# Altium footprint library WR-TBL_Pluggable Connector_2.50mm.PcbLib: 41 footprints (part 1 of 3)
Each footprint in its own frame and in the unit in brackets; x right, y up, seen from the top. Pads: shape width x height; smd on the part's side, far side on the other; paste and mask are expansions set on the pad; w line width, h text height; cw(c..) or ccw(c..) is an arc to the next point about the centre after c.
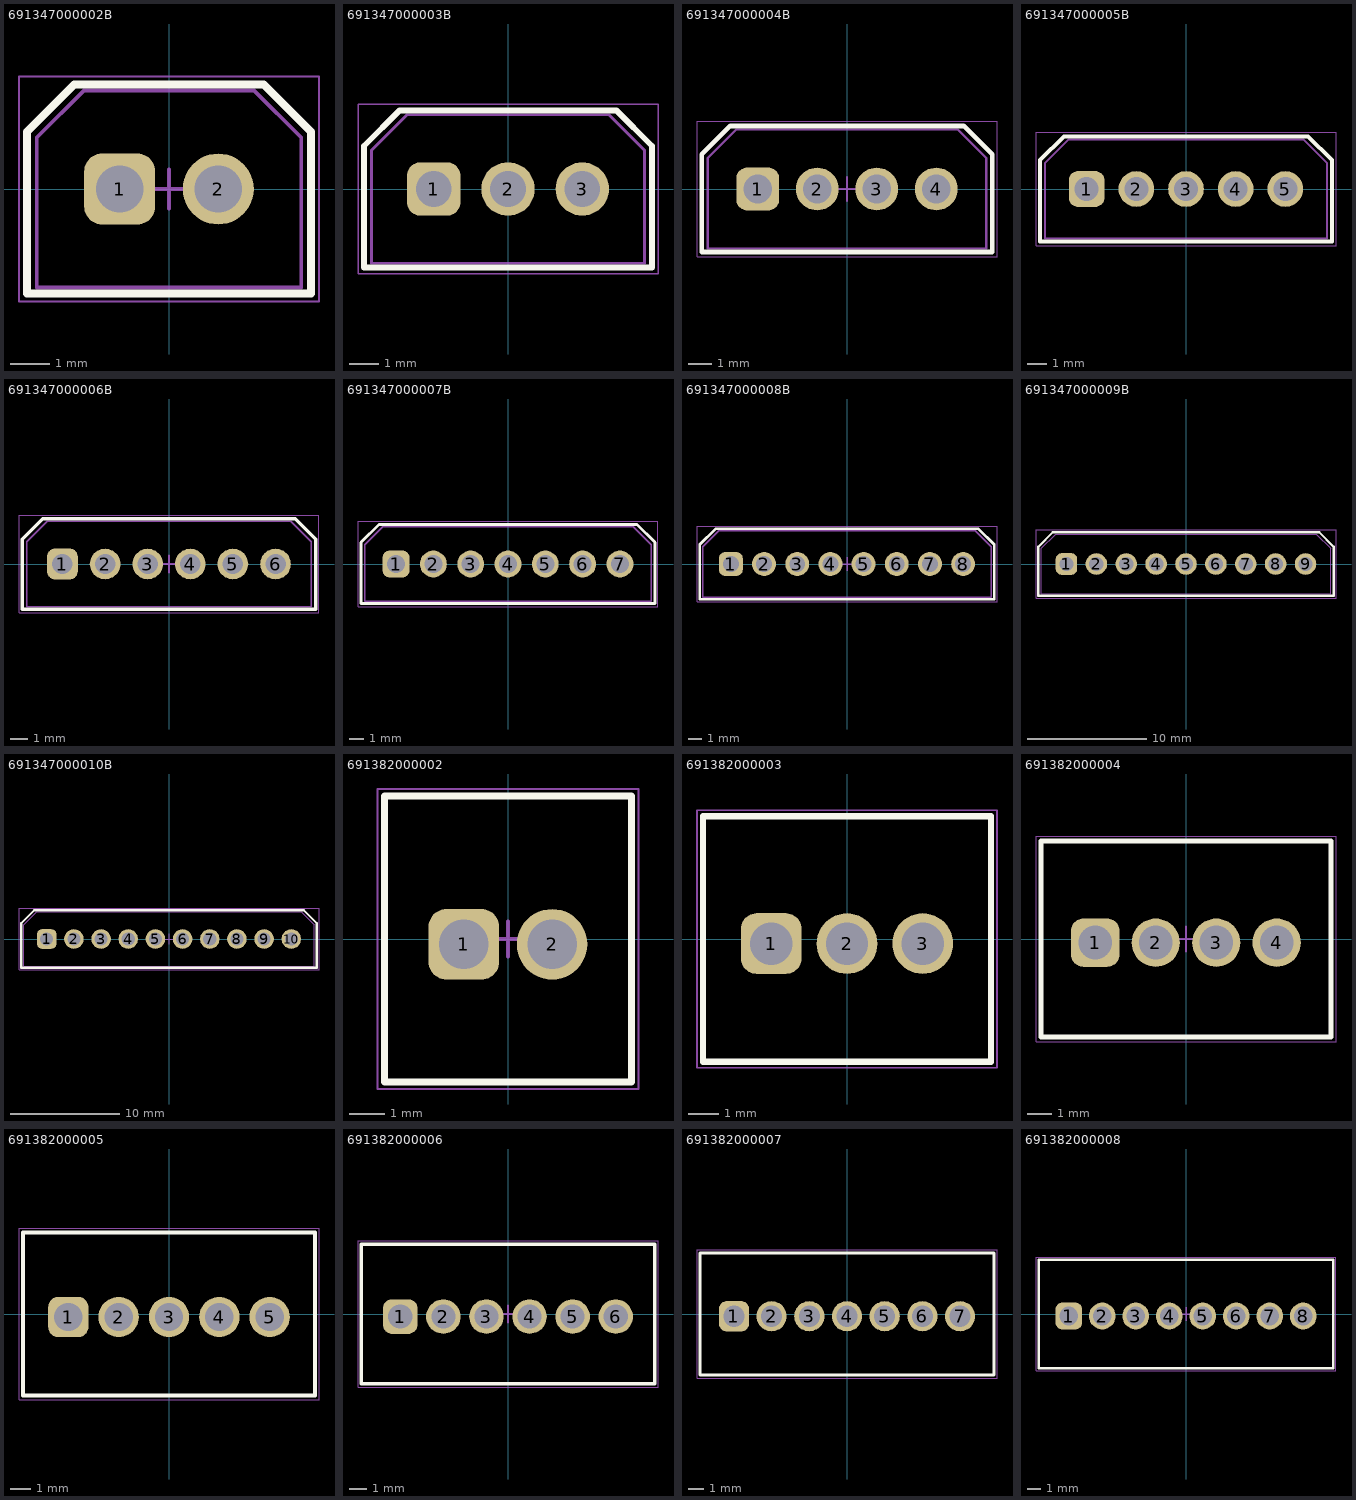
[diagram p0: the footprints below, top view; thin cyan lines are the x and y axes]

## 691347000002B [mm] "Terminal block - PCB  Header, pitch 2.5mm, 2p"
height 7.5
pads (2):
  rrect50% 1.8x1.8 hole 1.2: 1(-1.25,0)
  round 1.8 hole 1.2: 2(1.25,0)
Top Overlay:
  lines w0.2: -3.6,-2.65 3.6,-2.65 3.6,1.45 2.4,2.65 -2.4,2.65 -3.6,1.45 -3.6,-2.65
Top Assembly:
  lines w0.1: -3.35,-2.5 -3.35,1.3 -2.15,2.5 2.15,2.5 3.35,1.3 3.35,-2.5 -3.35,-2.5
Top Designator:
  text ".Designator" at -3.647,-0.357 h1
Top 3D Body:
  lines w0.1: -3.35,-2.5 3.35,-2.5 3.35,1.3 2.15,2.5 -2.15,2.5 -3.35,1.3 -3.35,-2.5
Top Courtyard:
  lines w0.05: -3.8,-2.85 -3.8,2.85 3.8,2.85 3.8,-2.85 -3.8,-2.85
Top Component Center:
  lines w0.1: -0.5,0 0.5,0 ; 0,-0.5 0,0.5
3D body "691347000002B_3D.stp": height 7.55, standoff -2.05, extent -3.35,-2.5 3.35,2.5

## 691347000003B [mm] "Terminal block - PCB  Header, pitch 2.5mm, 3p"
height 7.5
pads (3):
  rrect50% 1.8x1.8 hole 1.2: 1(-2.5,0)
  round 1.8 hole 1.2: 2(0,0) 3(2.5,0)
Top Overlay:
  lines w0.2: -4.85,-2.65 -4.85,1.45 -3.65,2.65 3.65,2.65 4.85,1.45 4.85,-2.65 -4.85,-2.65
Top Assembly:
  lines w0.1: -4.6,-2.5 -4.6,1.3 -3.4,2.5 3.4,2.5 4.6,1.3 4.6,-2.5 -4.6,-2.5
Top Designator:
  text ".Designator" at -3.647,-0.357 h1
Top 3D Body:
  lines w0.1: -4.6,-2.5 4.6,-2.5 4.6,1.3 3.4,2.5 -3.4,2.5 -4.6,1.3 -4.6,-2.5
Top Courtyard:
  lines w0.05: -5.05,-2.85 5.05,-2.85 5.05,2.85 -5.05,2.85 -5.05,-2.85
Top Component Center:
  lines w0.1: -0.5,0 0.5,0 ; 0,-0.5 0,0.5
3D body "691347000003B.stp": height 7.55, standoff -2.05, extent -4.6,-2.5 4.6,2.5

## 691347000004B [mm] "Terminal block - PCB  Header, pitch 2.5mm, 4p"
height 7.5
pads (4):
  rrect50% 1.8x1.8 hole 1.2: 1(-3.75,0)
  round 1.8 hole 1.2: 2(-1.25,0) 3(1.25,0) 4(3.75,0)
Top Overlay:
  lines w0.2: -6.1,-2.65 6.1,-2.65 6.1,1.45 4.9,2.65 -4.9,2.65 -6.1,1.45 -6.1,-2.65
Top Assembly:
  lines w0.1: -5.85,-2.5 -5.85,1.3 -4.65,2.5 4.65,2.5 5.85,1.3 5.85,-2.5 -5.85,-2.5
Top Designator:
  text ".Designator" at -3.647,-0.357 h1
Top 3D Body:
  lines w0.1: -5.85,-2.5 5.85,-2.5 5.85,1.3 4.65,2.5 -4.65,2.5 -5.85,1.3 -5.85,-2.5
Top Courtyard:
  lines w0.05: -6.3,-2.85 -6.3,2.85 6.3,2.85 6.3,-2.85 -6.3,-2.85
Top Component Center:
  lines w0.1: -0.5,0 0.5,0 ; 0,-0.5 0,0.5
3D body "691347000004B.stp": height 7.55, standoff -2.05, extent -5.85,-2.5 5.85,2.5

## 691347000005B [mm] "Terminal block - PCB  Header, pitch 2.5mm, 5p"
height 7.5
pads (5):
  rrect50% 1.8x1.8 hole 1.2: 1(-5,0)
  round 1.8 hole 1.2: 2(-2.5,0) 3(0,0) 4(2.5,0) 5(5,0)
Top Overlay:
  lines w0.2: -7.35,-2.65 7.35,-2.65 7.35,1.45 6.15,2.65 -6.15,2.65 -7.35,1.45 -7.35,-2.65
Top Assembly:
  lines w0.1: -7.1,-2.5 7.1,-2.5 7.1,1.3 5.9,2.5 -5.9,2.5 -7.1,1.3 -7.1,-2.5
Top Designator:
  text ".Designator" at -3.647,-0.357 h1
Top 3D Body:
  lines w0.1: -7.1,-2.5 -7.1,1.3 -5.9,2.5 5.9,2.5 7.1,1.3 7.1,-2.5 -7.1,-2.5
Top Courtyard:
  lines w0.05: -7.55,-2.85 -7.55,2.85 7.55,2.85 7.55,-2.85 -7.55,-2.85
Top Component Center:
  lines w0.1: -0.5,0 0.5,0 ; 0,-0.5 0,0.5
3D body "691347000005B.stp": height 7.55, standoff -2.05, extent -7.1,-2.5 7.1,2.5

## 691347000006B [mm] "Terminal block - PCB  Header, pitch 2.5mm, 6p"
height 7.5
pads (6):
  rrect50% 1.8x1.8 hole 1.2: 1(-6.25,0)
  round 1.8 hole 1.2: 2(-3.75,0) 3(-1.25,0) 4(1.25,0) 5(3.75,0) 6(6.25,0)
Top Overlay:
  lines w0.2: -8.6,-2.65 8.6,-2.65 8.6,1.45 7.4,2.65 -7.4,2.65 -8.6,1.45 -8.6,-2.65
Top Assembly:
  lines w0.1: -8.35,-2.5 -8.35,1.3 -7.15,2.5 7.15,2.5 8.35,1.3 8.35,-2.5 -8.35,-2.5
Top Designator:
  text ".Designator" at -3.647,-0.357 h1
Top 3D Body:
  lines w0.1: -8.35,-2.5 8.35,-2.5 8.35,1.3 7.15,2.5 -7.15,2.5 -8.35,1.3 -8.35,-2.5
Top Courtyard:
  lines w0.05: -8.8,-2.85 -8.8,2.85 8.8,2.85 8.8,-2.85 -8.8,-2.85
Top Component Center:
  lines w0.1: -0.5,0 0.5,0 ; 0,-0.5 0,0.5
3D body "691347000006B.stp": height 7.55, standoff -2.05, extent -8.35,-2.5 8.35,2.5

## 691347000007B [mm] "Terminal block - PCB  Header, pitch 2.5mm, 7p"
height 7.5
pads (7):
  rrect50% 1.8x1.8 hole 1.2: 1(-7.5,0)
  round 1.8 hole 1.2: 2(-5,0) 3(-2.5,0) 4(0,0) 5(2.5,0) 6(5,0) 7(7.5,0)
Top Overlay:
  lines w0.2: -9.85,-2.65 9.85,-2.65 9.85,1.45 8.65,2.65 -8.65,2.65 -9.85,1.45 -9.85,-2.65
Top Assembly:
  lines w0.1: -9.6,-2.5 9.6,-2.5 9.6,1.3 8.4,2.5 -8.4,2.5 -9.6,1.3 -9.6,-2.5
Top Designator:
  text ".Designator" at -3.647,-0.357 h1
Top 3D Body:
  lines w0.1: -9.6,-2.5 -9.6,1.3 -8.4,2.5 8.4,2.5 9.6,1.3 9.6,-2.5 -9.6,-2.5
Top Courtyard:
  lines w0.05: -10.05,-2.85 -10.05,2.85 10.05,2.85 10.05,-2.85 -10.05,-2.85
Top Component Center:
  lines w0.1: -0.5,0 0.5,0 ; 0,-0.5 0,0.5
3D body "691347000007B.stp": height 7.55, standoff -2.05, extent -9.6,-2.5 9.6,2.5

## 691347000008B [mm] "Terminal block - PCB  Header, pitch 2.5mm, 8p"
height 7.5
pads (8):
  rrect50% 1.8x1.8 hole 1.2: 1(-8.75,0)
  round 1.8 hole 1.2: 2(-6.25,0) 3(-3.75,0) 4(-1.25,0) 5(1.25,0) 6(3.75,0) 7(6.25,0) 8(8.75,0)
Top Overlay:
  lines w0.2: -11.1,-2.65 -11.1,1.45 -9.9,2.65 9.9,2.65 11.1,1.45 11.1,-2.65 -11.1,-2.65
Top Assembly:
  lines w0.1: -10.85,-2.5 10.85,-2.5 10.85,1.3 9.65,2.5 -9.65,2.5 -10.85,1.3 -10.85,-2.5
Top Designator:
  text ".Designator" at -3.647,-0.357 h1
Top 3D Body:
  lines w0.1: -10.85,-2.5 -10.85,1.3 -9.65,2.5 9.65,2.5 10.85,1.3 10.85,-2.5 -10.85,-2.5
Top Courtyard:
  lines w0.05: -11.3,-2.85 11.3,-2.85 11.3,2.85 -11.3,2.85 -11.3,-2.85
Top Component Center:
  lines w0.1: -0.5,0 0.5,0 ; 0,-0.5 0,0.5
3D body "691347000008B.stp": height 7.55, standoff -2.05, extent -10.85,-2.5 10.85,2.5

## 691347000009B [mm] "Terminal block - PCB  Header, pitch 2.5mm, 9p"
height 7.5
pads (9):
  rrect50% 1.8x1.8 hole 1.2: 1(-10,0)
  round 1.8 hole 1.2: 2(-7.5,0) 3(-5,0) 4(-2.5,0) 5(0,0) 6(2.5,0) 7(5,0) 8(7.5,0) 9(10,0)
Top Overlay:
  lines w0.2: 11.15,2.65 12.35,1.45 12.35,-2.65 -12.35,-2.65 -12.35,1.45 -11.15,2.65 11.15,2.65
Top Assembly:
  lines w0.1: -12.1,-2.5 -12.1,1.3 -10.9,2.5 10.9,2.5 12.1,1.3 12.1,-2.5 -12.1,-2.5
Top Designator:
  text ".Designator" at -3.647,-0.357 h1
Top 3D Body:
  lines w0.1: -12.1,-2.5 12.1,-2.5 12.1,1.3 10.9,2.5 -10.9,2.5 -12.1,1.3 -12.1,-2.5
Top Courtyard:
  lines w0.05: -12.55,-2.85 12.55,-2.85 12.55,2.85 -12.55,2.85 -12.55,-2.85
Top Component Center:
  lines w0.1: -0.5,0 0.5,0 ; 0,-0.5 0,0.5
3D body "691347000009B.stp": height 7.55, standoff -2.05, extent -12.1,-2.5 12.1,2.5

## 691347000010B [mm] "Terminal block - PCB  Header, pitch 2.5mm, 10p"
height 7.5
pads (10):
  rrect50% 1.8x1.8 hole 1.2: 1(-11.25,0)
  round 1.8 hole 1.2: 2(-8.75,0) 3(-6.25,0) 4(-3.75,0) 5(-1.25,0) 6(1.25,0) 7(3.75,0) 8(6.25,0) 9(8.75,0) 10(11.25,0)
Top Overlay:
  lines w0.2: -13.6,-2.65 13.6,-2.65 13.6,1.45 12.4,2.65 -12.4,2.65 -13.6,1.45 -13.6,-2.65
Top Assembly:
  lines w0.1: -13.35,-2.5 -13.35,1.3 -12.15,2.5 12.15,2.5 13.35,1.3 13.35,-2.5 -13.35,-2.5
Top Designator:
  text ".Designator" at -3.647,-0.357 h1
Top 3D Body:
  lines w0.1: -13.35,-2.5 13.35,-2.5 13.35,1.3 12.15,2.5 -12.15,2.5 -13.35,1.3 -13.35,-2.5
Top Courtyard:
  lines w0.05: -13.8,-2.85 -13.8,2.85 13.8,2.85 13.8,-2.85 -13.8,-2.85
Top Component Center:
  lines w0.1: -0.5,0 0.5,0 ; 0,-0.5 0,0.5
3D body "691347000010B.stp": height 7.55, standoff -2.05, extent -13.35,-2.5 13.35,2.5

## 691382000002 [mm] "Vertical PCB Header, pitch 2.5mm, 02p"
height 10.1
pads (2):
  rrect50% 2x2 hole 1.4: 1(-1.25,-0.15)
  round 2 hole 1.4: 2(1.25,-0.15)
Top Overlay:
  lines w0.2: -3.5,-4.05 -3.5,4.05 3.5,4.05 3.5,-4.05 -3.5,-4.05
Top Assembly:
  lines w0.1: -3.5,-4.05 3.5,-4.05 3.5,4.05 -3.5,4.05 -3.5,-4.05
Top Designator:
  text ".Designator" at -3.647,-0.357 h1
Top 3D Body:
  lines w0.1: -3.5,-4.05 -3.5,4.05 3.5,4.05 3.5,-4.05 -3.5,-4.05
Top Courtyard:
  lines w0.05: -3.7,-4.25 -3.7,4.25 3.7,4.25 3.7,-4.25 -3.7,-4.25
Top Component Center:
  lines w0.1: -0.5,0 0.5,0 ; 0,-0.5 0,0.5
3D body "691382000002.stp": height 10.14, standoff -3.46, extent -3.5,-4.05 3.5,4.05

## 691382000003 [mm] "Vertical PCB Header, pitch 2.5mm, 03p"
height 10.1
pads (3):
  rrect50% 2x2 hole 1.4: 1(-2.5,-0.15)
  round 2 hole 1.4: 2(0,-0.15) 3(2.5,-0.15)
Top Overlay:
  lines w0.2: -4.75,-4.05 -4.75,4.05 4.75,4.05 4.75,-4.05 -4.75,-4.05
Top Assembly:
  lines w0.1: -4.75,-4.05 4.75,-4.05 4.75,4.05 -4.75,4.05 -4.75,-4.05
Top Designator:
  text ".Designator" at -3.647,-0.357 h1
Top 3D Body:
  lines w0.1: -4.75,-4.05 -4.75,4.05 4.75,4.05 4.75,-4.05 -4.75,-4.05
Top Courtyard:
  lines w0.05: -4.95,-4.25 -4.95,4.25 4.95,4.25 4.95,-4.25 -4.95,-4.25
Top Component Center:
  lines w0.1: -0.5,0 0.5,0 ; 0,-0.5 0,0.5
3D body "691382000003.stp": height 10.14, standoff -3.46, extent -4.75,-4.05 4.75,4.05

## 691382000004 [mm] "Vertical PCB Header, pitch 2.5mm, 04p"
height 10.1
pads (4):
  rrect50% 2x2 hole 1.4: 1(-3.75,-0.15)
  round 2 hole 1.4: 2(-1.25,-0.15) 3(1.25,-0.15) 4(3.75,-0.15)
Top Overlay:
  lines w0.2: -6,-4.05 -6,4.05 6,4.05 6,-4.05 -6,-4.05
Top Assembly:
  lines w0.1: -6,-4.05 6,-4.05 6,4.05 -6,4.05 -6,-4.05
Top Designator:
  text ".Designator" at -3.647,-0.357 h1
Top 3D Body:
  lines w0.1: -6,-4.05 -6,4.05 6,4.05 6,-4.05 -6,-4.05
Top Courtyard:
  lines w0.05: -6.2,-4.25 -6.2,4.25 6.2,4.25 6.2,-4.25 -6.2,-4.25
Top Component Center:
  lines w0.1: -0.5,0 0.5,0 ; 0,-0.5 0,0.5
3D body "691382000004.stp": height 10.14, standoff -3.46, extent -6,-4.05 6,4.05

## 691382000005 [mm] "Vertical PCB Header, pitch 2.5mm, 05p"
height 10.1
pads (5):
  rrect50% 2x2 hole 1.4: 1(-5,-0.15)
  round 2 hole 1.4: 2(-2.5,-0.15) 3(0,-0.15) 4(2.5,-0.15) 5(5,-0.15)
Top Overlay:
  lines w0.2: -7.25,-4.05 7.25,-4.05 7.25,4.05 -7.25,4.05 -7.25,-4.05
Top Assembly:
  lines w0.1: -7.25,-4.05 -7.25,4.05 7.25,4.05 7.25,-4.05 -7.25,-4.05
Top Designator:
  text ".Designator" at -3.647,-0.357 h1
Top 3D Body:
  lines w0.1: -7.25,-4.05 7.25,-4.05 7.25,4.05 -7.25,4.05 -7.25,-4.05
Top Courtyard:
  lines w0.05: -7.45,-4.25 7.45,-4.25 7.45,4.25 -7.45,4.25 -7.45,-4.25
Top Component Center:
  lines w0.1: -0.5,0 0.5,0 ; 0,-0.5 0,0.5
3D body "691382000005.stp": height 10.14, standoff -3.46, extent -7.25,-4.05 7.25,4.05

## 691382000006 [mm] "Vertical PCB Header, pitch 2.5mm, 06p"
height 10.1
pads (6):
  rrect50% 2x2 hole 1.4: 1(-6.25,-0.15)
  round 2 hole 1.4: 2(-3.75,-0.15) 3(-1.25,-0.15) 4(1.25,-0.15) 5(3.75,-0.15) 6(6.25,-0.15)
Top Overlay:
  lines w0.2: -8.5,-4.05 8.5,-4.05 8.5,4.05 -8.5,4.05 -8.5,-4.05
Top Assembly:
  lines w0.1: -8.5,-4.05 -8.5,4.05 8.5,4.05 8.5,-4.05 -8.5,-4.05
Top Designator:
  text ".Designator" at -3.647,-0.357 h1
Top 3D Body:
  lines w0.1: -8.5,-4.05 8.5,-4.05 8.5,4.05 -8.5,4.05 -8.5,-4.05
Top Courtyard:
  lines w0.05: -8.7,-4.25 8.7,-4.25 8.7,4.25 -8.7,4.25 -8.7,-4.25
Top Component Center:
  lines w0.1: -0.5,0 0.5,0 ; 0,-0.5 0,0.5
3D body "691382000006.stp": height 10.14, standoff -3.46, extent -8.5,-4.05 8.5,4.05

## 691382000007 [mm] "Vertical PCB Header, pitch 2.5mm, 07p"
height 10.1
pads (7):
  rrect50% 2x2 hole 1.4: 1(-7.5,-0.15)
  round 2 hole 1.4: 2(-5,-0.15) 3(-2.5,-0.15) 4(0,-0.15) 5(2.5,-0.15) 6(5,-0.15) 7(7.5,-0.15)
Top Overlay:
  lines w0.2: -9.75,-4.05 9.75,-4.05 9.75,4.05 -9.75,4.05 -9.75,-4.05
Top Assembly:
  lines w0.1: -9.75,-4.05 -9.75,4.05 9.75,4.05 9.75,-4.05 -9.75,-4.05
Top Designator:
  text ".Designator" at -3.647,-0.357 h1
Top 3D Body:
  lines w0.1: -9.75,-4.05 9.75,-4.05 9.75,4.05 -9.75,4.05 -9.75,-4.05
Top Courtyard:
  lines w0.05: -9.95,-4.25 9.95,-4.25 9.95,4.25 -9.95,4.25 -9.95,-4.25
Top Component Center:
  lines w0.1: -0.5,0 0.5,0 ; 0,-0.5 0,0.5
3D body "691382000007.stp": height 10.14, standoff -3.46, extent -9.75,-4.05 9.75,4.05

## 691382000008 [mm] "Vertical PCB Header, pitch 2.5mm, 08p"
height 10.1
pads (8):
  rrect50% 2x2 hole 1.4: 1(-8.75,-0.15)
  round 2 hole 1.4: 2(-6.25,-0.15) 3(-3.75,-0.15) 4(-1.25,-0.15) 5(1.25,-0.15) 6(3.75,-0.15) 7(6.25,-0.15) 8(8.75,-0.15)
Top Overlay:
  lines w0.2: -11,-4.05 -11,4.05 11,4.05 11,-4.05 -11,-4.05
Top Assembly:
  lines w0.1: -11,-4.05 11,-4.05 11,4.05 -11,4.05 -11,-4.05
Top Designator:
  text ".Designator" at -3.647,-0.357 h1
Top 3D Body:
  lines w0.1: -11,-4.05 -11,4.05 11,4.05 11,-4.05 -11,-4.05
Top Courtyard:
  lines w0.05: -11.2,-4.25 -11.2,4.25 11.2,4.25 11.2,-4.25 -11.2,-4.25
Top Component Center:
  lines w0.1: -0.5,0 0.5,0 ; 0,-0.5 0,0.5
3D body "691382000008.stp": height 10.14, standoff -3.46, extent -11,-4.05 11,4.05